# EAGLE library part GATE_DRIVER (library induction-heater)
PIN HEADER
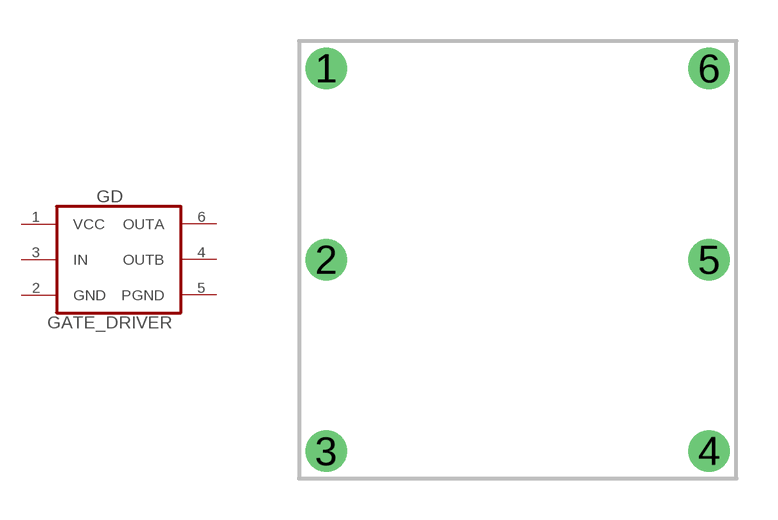
[diagram p5: symbol with the pads of GATE_DRIVER; footprint GATE_DRIVER]

Designator prefix GD

## GATE_DRIVER  [GATE_DRIVER]
1  VCC  pas
2  GND  pas
3  IN  pas
4  OUTB  pas
5  PGND  pas
6  OUTA  pas

## Footprint GATE_DRIVER (pad centres in mm)
PIN HEADER
drill 1: 1 -7,7; 2 -7,0; 3 -7,-7; 4 7,-7; 5 7,0; 6 7,7